# Altium footprint library 继电器.PcbLib: 47 footprints (part 1 of 3)
Each footprint in its own frame and in the unit in brackets; x right, y up, seen from the top. Pads: shape width x height; smd on the part's side, far side on the other; paste and mask are expansions set on the pad; w line width, h text height; cw(c..) or ccw(c..) is an arc to the next point about the centre after c.
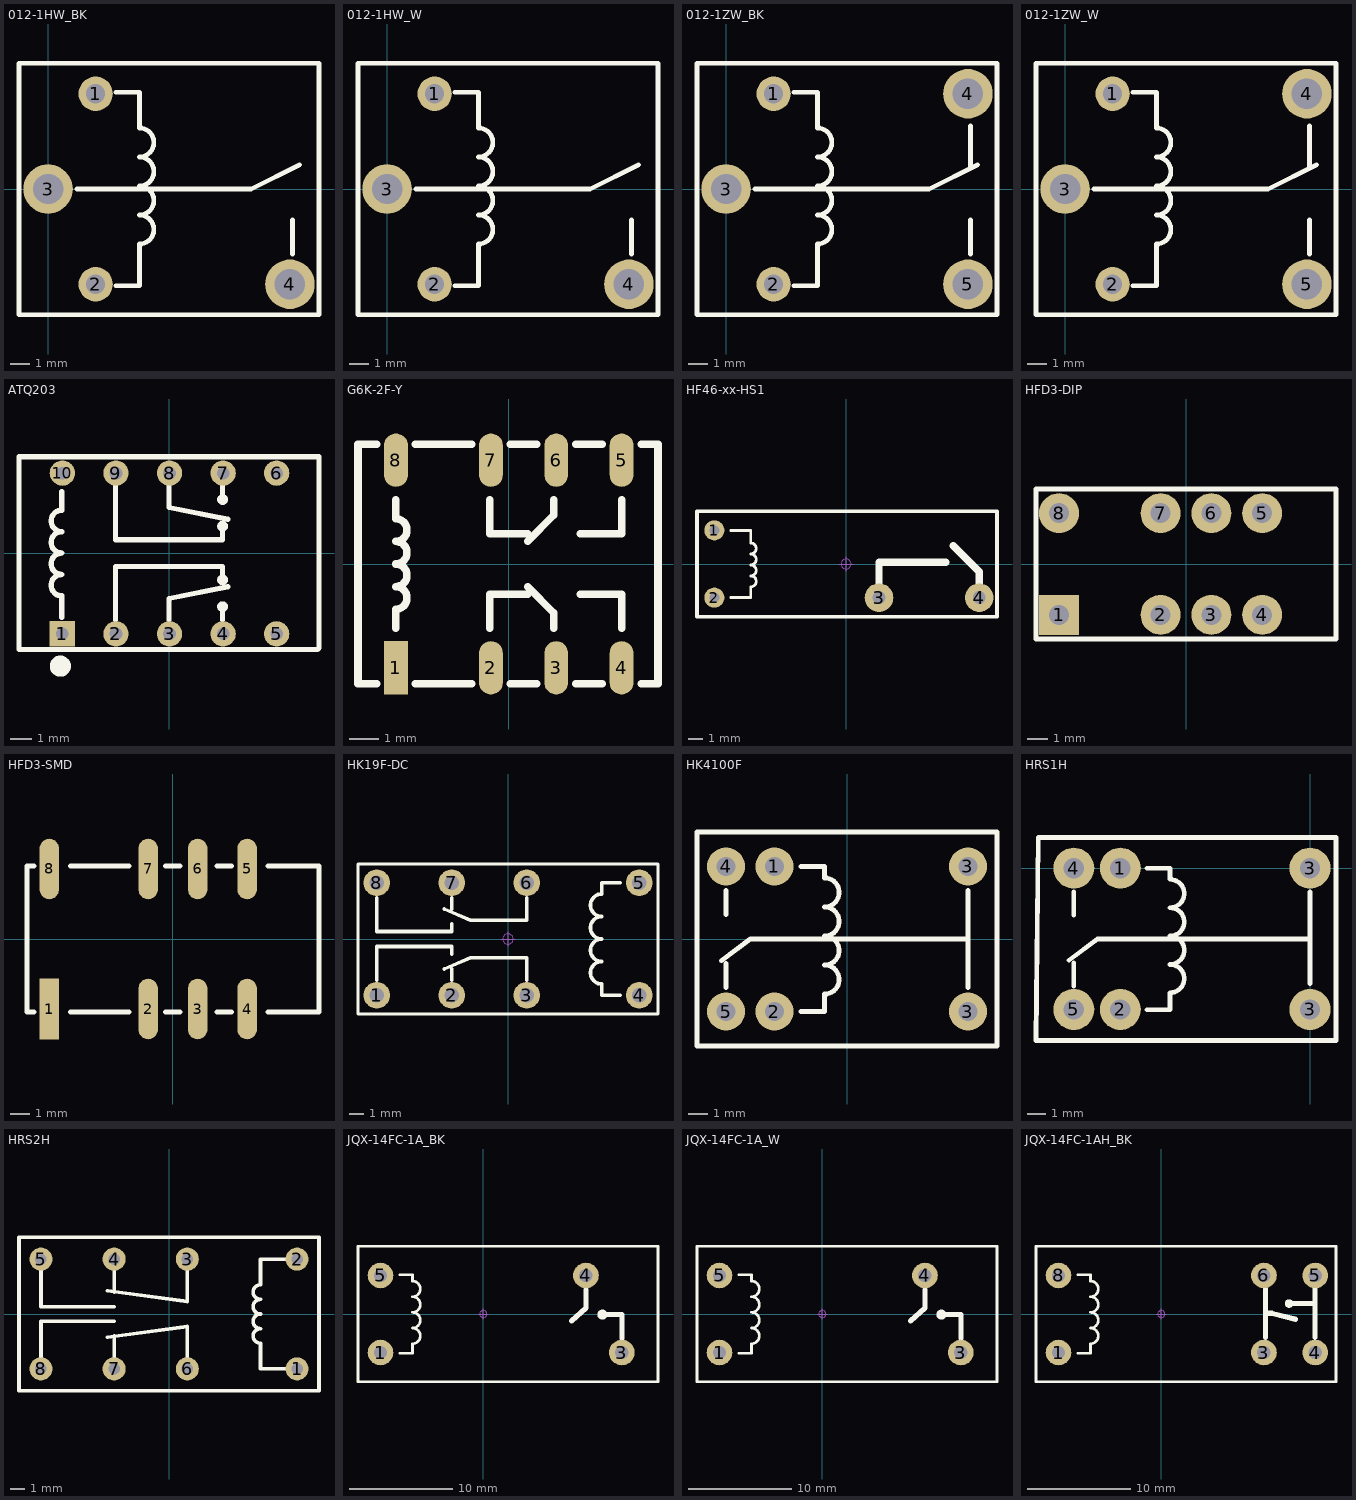
[diagram p0: the footprints below, top view; thin cyan lines are the x and y axes]

## 012-1HW_BK [mm] "单刀单投/常开"
pads (4):
  round 1.8 hole 1: 1(2.5,5) 2(2.5,-5)
  round 2.6 hole 1.6: 3(0,0) 4(12.7,-5)
Top Overlay:
  lines w0.254: 1.524,0 10.668,0 13.208,1.27 ; 3.556,-5.08 4.794,-5.08 4.794,-2.89 ccw(c4.794,-2.128) 4.794,-1.366 ccw(c4.794,-0.604) 4.794,0.158 ccw(c4.794,0.92) 4.794,1.682 ccw(c4.794,2.444) 4.794,3.206 4.794,5.08 3.556,5.08 ; 12.827,-3.429 12.838,-1.62 ; -1.524,-6.604 14.224,-6.604 14.224,6.604 -1.524,6.604 -1.524,-6.604
3D body: height 12.9, standoff -3.6, extent -1.5,-6.1 14,6.1

## 012-1HW_W [mm] "单刀单投/常开"
pads (4):
  round 1.8 hole 1: 1(2.5,5) 2(2.5,-5)
  round 2.6 hole 1.6: 3(0,0) 4(12.7,-5)
Top Overlay:
  lines w0.254: 1.524,0 10.668,0 13.208,1.27 ; 3.556,-5.08 4.794,-5.08 4.794,-2.89 ccw(c4.794,-2.128) 4.794,-1.366 ccw(c4.794,-0.604) 4.794,0.158 ccw(c4.794,0.92) 4.794,1.682 ccw(c4.794,2.444) 4.794,3.206 4.794,5.08 3.556,5.08 ; 12.827,-3.429 12.838,-1.62 ; -1.524,-6.604 -1.524,6.604 14.224,6.604 14.224,-6.604 -1.524,-6.604
3D body: height 12.9, standoff -3.6, extent -1.5,-6.1 14,6.1

## 012-1ZW_BK [mm] "单刀双投"
pads (5):
  round 1.8 hole 1: 1(2.5,5) 2(2.5,-5)
  round 2.6 hole 1.6: 3(0,0) 4(12.7,5) 5(12.7,-5)
Top Overlay:
  lines w0.254: 1.524,0 10.668,0 13.208,1.27 ; 3.556,-5.08 4.794,-5.08 4.794,-2.89 ccw(c4.794,-2.128) 4.794,-1.366 ccw(c4.794,-0.604) 4.794,0.158 ccw(c4.794,0.92) 4.794,1.682 ccw(c4.794,2.444) 4.794,3.206 4.794,5.08 3.556,5.08 ; 12.827,-3.429 12.838,-1.62 ; 12.838,1.174 12.838,3.302 ; -1.524,-6.604 14.224,-6.604 14.224,6.604 -1.524,6.604 -1.524,-6.604
3D body: height 12.9, standoff -3.6, extent -1.5,-6.1 14,6.1

## 012-1ZW_W [mm] "单刀双投"
pads (5):
  round 1.8 hole 1: 1(2.5,5) 2(2.5,-5)
  round 2.6 hole 1.6: 3(0,0) 4(12.7,5) 5(12.7,-5)
Top Overlay:
  lines w0.254: 1.524,0 10.668,0 13.208,1.27 ; 3.556,-5.08 4.794,-5.08 4.794,-2.89 ccw(c4.794,-2.128) 4.794,-1.366 ccw(c4.794,-0.604) 4.794,0.158 ccw(c4.794,0.92) 4.794,1.682 ccw(c4.794,2.444) 4.794,3.206 4.794,5.08 3.556,5.08 ; 12.827,-3.429 12.838,-1.62 ; 12.838,1.174 12.838,3.302 ; -1.524,-6.604 -1.524,6.604 14.224,6.604 14.224,-6.604 -1.524,-6.604
3D body: height 12.9, standoff -3.6, extent -1.5,-6.1 14,6.1

## ATQ203 [mm] "双刀双投"
pads (10):
  rect 1.2x1.2 hole 0.6: 1(-5.055,-3.829)
  round 1.2 hole 0.6: 2(-2.515,-3.829) 3(0.025,-3.829) 4(2.565,-3.829) 5(5.105,-3.829) 6(5.105,3.791) 7(2.565,3.791) 8(0.025,3.791) 9(-2.515,3.791) 10(-5.055,3.791)
Top Overlay:
  circle w0.254: c2.54,-2.54 r0.127
  circle w0.254: c2.54,-1.27 r0.127
  circle w0.254: c2.54,1.27 r0.127
  circle w0.254: c2.54,2.54 r0.127
  circle w0.5: c-5.152,-5.359 r0.25
  lines w0.254: -5.08,-3.048 -5.08,-2.032 cw(c-5.08,-1.524) -5.08,-1.016 cw(c-5.08,-0.508) -5.08,0 cw(c-5.08,0.508) -5.08,1.016 cw(c-5.08,1.524) -5.08,2.032 -5.08,2.921 ; -2.54,-3.175 -2.54,-2.159 -2.54,-0.635 2.54,-0.635 2.54,-1.27 ; -2.54,3.175 -2.54,2.159 -2.54,0.635 2.54,0.635 2.54,1.27 ; 0,-3.175 0,-2.159 2.784,-1.602 ; 0,3.175 0,2.159 2.784,1.602 ; 2.54,-3.175 2.54,-2.54 ; 2.54,2.54 2.54,3.175 ; -7.112,-4.572 7.04,-4.572 7.112,-4.5 7.112,4.572 -7.112,4.572 -7.112,-4.572
3D body: height 5.25, standoff -3.5, extent -7,-4.5 7,4.5

## G6K-2F-Y [mm] "10mm*6.5mm*5.2mm( 长*宽*高)"
pads (8):
  rect 0.8x1.8 smd: 1(-3.8,-3.5)
  oval 0.8x1.8 smd: 2(-0.6,-3.5) 3(1.6,-3.5) 4(3.8,-3.5) 5(3.8,3.5) 6(1.6,3.5) 7(-0.6,3.5) 8(-3.8,3.5)
Top Overlay:
  lines w0.254: -4.445,-4.039 -5.08,-4.039 -5.08,4.039 -4.445,4.039 ; -3.81,-2.159 -3.81,-1.524 ccw(c-3.81,-1.143) -3.81,-0.762 ccw(c-3.81,-0.381) -3.81,0 ccw(c-3.81,0.381) -3.81,0.762 ccw(c-3.81,1.143) -3.81,1.524 -3.81,2.159 ; -3.15,-4.039 -1.245,-4.039 ; -3.15,4.039 -1.245,4.039 ; -0.635,-2.159 -0.635,-1.016 0.635,-1.016 ; -0.635,2.159 -0.635,1.016 0.635,1.016 ; 0.051,-4.039 0.94,-4.039 ; 0.051,4.039 0.94,4.039 ; 0.635,-0.762 1.524,-1.651 1.524,-2.159 ; 0.635,0.762 1.524,1.651 1.524,2.159 ; 2.261,-4.039 3.15,-4.039 ; 2.261,4.039 3.15,4.039 ; 2.413,-1.016 3.81,-1.016 3.81,-2.159 ; 2.413,1.016 3.81,1.016 3.81,2.159 ; 4.47,-4.039 5.029,-4.039 5.029,4.039 4.47,4.039
3D body: height 5.45, standoff -0.05, extent -5,-3.9 5,3.9

## HF46-xx-HS1 [mm] "一组常开，长：20.5mm，宽：7mm，高：15.3mm"
pads (4):
  round 1.4 hole 0.7: 1(-9.2,2.35) 2(-9.2,-2.35)
  round 2 hole 0.9: 3(2.3,-2.35) 4(9.3,-2.35)
Top Overlay:
  lines w0.2: -8.057,-2.35 -6.66,-2.35 -6.66,-1.59 ccw(c-6.66,-1.208) -6.66,-0.826 ccw(c-6.66,-0.444) -6.66,-0.062 ccw(c-6.66,0.32) -6.66,0.702 ccw(c-6.66,1.084) -6.66,1.466 -6.66,2.35 -8.057,2.35
  lines w0.254: -10.414,-3.683 10.541,-3.683 10.541,3.683 -10.414,3.683 -10.414,-3.683
  lines w0.508: 2.3,-2.35 2.3,0.113 2.314,0.127 6.985,0.127 ; 7.493,1.27 9.3,-0.537 9.3,-2.35
Mechanical 15:
  circle w0.05: c0,0 r0.35
  lines w0.05: -0.5,0 0.5,0 ; 0,-0.5 0,0.5
3D body: height 15.3, standoff -2.6, extent -10.25,-3.5 10.25,3.5

## HFD3-DIP [mm] "超小型型号继电器（15mm*7.5mm*9mm)"
pads (8):
  rect 2x2 hole 1: 1(-6.35,-2.54)
  round 2 hole 1: 2(-1.27,-2.54) 3(1.27,-2.54) 4(3.81,-2.54) 5(3.81,2.54) 6(1.27,2.54) 7(-1.27,2.54) 8(-6.35,2.54)
Top Overlay:
  lines w0.254: -7.5,-3.75 7.5,-3.75 7.5,3.75 -7.5,3.75 -7.5,-3.75
3D body: height 9, standoff -3.3, extent -7.5,-3.75 7.5,3.75

## HFD3-SMD [mm] "超小型型号继电器（15mm*7.5mm*9mm)"
pads (8):
  rect 1x3.11 smd: 1(-6.35,-3.595)
  oval 1x3.11 smd: 2(-1.27,-3.595) 3(1.27,-3.595) 4(3.81,-3.595) 5(3.81,3.595) 6(1.27,3.595) 7(-1.27,3.595) 8(-6.35,3.595)
Top Overlay:
  lines w0.254: -7.125,-3.75 -7.5,-3.75 -7.5,3.75 -7.125,3.75 ; -5.25,-3.75 -2.25,-3.75 ; -5.25,3.75 -2.25,3.75 ; -0.375,-3.75 0.375,-3.75 ; -0.375,3.75 0.375,3.75 ; 2.25,-3.75 3,-3.75 ; 2.25,3.75 3,3.75 ; 4.875,-3.75 7.5,-3.75 7.5,3.75 4.875,3.75
3D body: height 9.5, standoff 0, extent -7.5,-4.65 7.5,4.65

## HK19F-DC [mm] "单刀双投，长：20.2mm，宽：10mm，高：12mm"
pads (8):
  round 1.8 hole 1: 1(-8.89,-3.81) 2(-3.81,-3.81) 3(1.27,-3.81) 4(8.89,-3.81) 5(8.89,3.81) 6(1.27,3.81) 7(-3.81,3.81) 8(-8.89,3.81)
Top Overlay:
  lines w0.2: -10.16,-5.08 -10.16,5.08 10.16,5.08 10.16,-5.08 -10.16,-5.08
  lines w0.254: -8.89,-2.794 -8.89,-0.508 -3.81,-0.508 -3.81,-1.016 ; -8.89,2.794 -8.89,0.508 -3.81,0.508 -3.81,1.016 ; -4.318,-2.032 -2.54,-1.27 1.27,-1.27 1.27,-2.794 ; -4.318,2.032 -2.54,1.27 1.27,1.27 1.27,2.794 ; -3.81,-2.794 -3.81,-2.032 ; -3.81,2.032 -3.81,2.794 ; 7.588,-3.81 6.35,-3.81 6.35,-3.048 cw(c6.35,-2.286) 6.35,-1.524 cw(c6.35,-0.762) 6.35,0 cw(c6.35,0.762) 6.35,1.524 cw(c6.35,2.286) 6.35,3.048 6.35,3.81 7.588,3.81
Mechanical 15:
  circle w0.05: c0,0 r0.35
  lines w0.05: -0.5,0 0.5,0 ; 0,-0.5 0,0.5
3D body: height 11.85, standoff -3.25, extent -10.1,-5 10.1,5

## HK4100F [mm] "单刀双投"
pads (6):
  round 2 hole 1: 1(-3.81,3.81) 2(-3.81,-3.81) 3(6.35,-3.81) 3(6.35,3.81) 4(-6.35,3.81) 5(-6.35,-3.81)
Top Overlay:
  lines w0.254: -6.604,-1.143 -5.08,0 6.35,0 ; -6.35,-2.54 -6.35,-1.27 ; -6.35,1.27 -6.35,2.54 ; -2.413,-3.81 -1.175,-3.81 -1.175,-2.89 ccw(c-1.175,-2.128) -1.175,-1.366 ccw(c-1.175,-0.604) -1.175,0.158 ccw(c-1.175,0.92) -1.175,1.682 ccw(c-1.175,2.444) -1.175,3.206 -1.175,3.81 -2.413,3.81 ; 6.35,-2.54 6.35,2.54 ; -7.874,-5.613 7.874,-5.613 7.874,5.613 -7.874,5.613 -7.874,-5.613
3D body: height 12.2, standoff -3.3, extent -7.75,-5.5 7.75,5.5

## HRS1H [mm] "单刀双投"
pads (6):
  round 2.2 hole 1.1: 1(-10.2,0) 2(-10.2,-7.6) 3(0,-7.6) 3(0,0) 4(-12.7,0) 5(-12.7,-7.6)
Top Overlay:
  lines w0.254: -12.954,-4.953 -11.43,-3.81 0,-3.81 ; -12.7,-6.35 -12.7,-5.08 ; -12.7,-2.54 -12.7,-1.27 ; -8.763,-7.62 -7.525,-7.62 -7.525,-6.7 ccw(c-7.525,-5.938) -7.525,-5.176 ccw(c-7.525,-4.414) -7.525,-3.652 ccw(c-7.525,-2.89) -7.525,-2.128 ccw(c-7.525,-1.366) -7.525,-0.604 -7.525,0 -8.763,0 ; 0,-6.223 0,-1.27 ; -14.732,-9.271 -14.605,1.651 1.397,1.651 1.397,-9.271 -14.732,-9.271
3D body: height 11.8, standoff -3.3, extent -14.4,-9.05 1.1,1.45

## HRS2H [mm] "双刀双投"
pads (8):
  round 1.6 hole 0.8: 1(8.89,-3.81) 2(8.89,3.81) 3(1.27,3.81) 4(-3.81,3.81) 5(-8.89,3.81) 6(1.27,-3.81) 7(-3.81,-3.81) 8(-8.89,-3.81)
Top Overlay:
  lines w0.254: -8.89,-3.81 -8.89,-0.508 -3.81,-0.508 ; -8.89,3.81 -8.89,0.508 -3.81,0.508 ; -4.27,-1.621 1.27,-0.866 1.27,-1.27 1.27,-3.81 ; -4.27,1.621 1.27,0.866 1.27,1.27 1.27,3.81 ; -3.81,-3.81 -3.81,-1.524 ; -3.81,1.524 -3.81,3.81 ; 8.89,-3.81 6.35,-3.81 6.35,-2.032 cw(c6.35,-1.524) 6.35,-1.016 cw(c6.35,-0.508) 6.35,0 cw(c6.35,0.508) 6.35,1.016 cw(c6.35,1.524) 6.35,2.032 6.35,3.81 8.89,3.81 ; -10.414,-5.334 10.414,-5.334 10.414,5.334 -10.414,5.334 -10.414,-5.334
3D body: height 10.91, standoff -4, extent -10.1,-4.95 10.1,4.95

## JQX-14FC-1A_BK [mm] "单刀常开，长：29mm，宽：13mm，高：26mm"
pads (4):
  round 2.5 hole 1.3: 1(-10,-3.75) 3(13.5,-3.75) 4(10,3.75) 5(-10,3.75)
Top Overlay:
  circle w0.254: c11.595,-0.06 r0.359
  lines w0.25: -12.192,-6.604 -12.192,6.604 -12.065,6.604 17.018,6.604 17.018,-6.604 -12.192,-6.604
  lines w0.254: -8.128,-3.81 -6.89,-3.81 -6.89,-2.89 ccw(c-6.89,-2.128) -6.89,-1.366 ccw(c-6.89,-0.604) -6.89,0.158 ccw(c-6.89,0.92) -6.89,1.682 ccw(c-6.89,2.444) -6.89,3.206 -6.89,3.81 -8.128,3.81
  lines w0.508: 8.603,-0.695 10,0.575 10,2.353 ; 11.595,-0.06 13.5,-0.06 13.5,-2.353
Mechanical 15:
  circle w0.05: c0,0 r0.35
  lines w0.05: -0.5,0 0.5,0 ; 0,-0.5 0,0.5
3D body: height 26.35, standoff -3.65, extent -12.1,-6.5 16.9,6.5

## JQX-14FC-1A_W [mm] "单刀常开，长：29mm，宽：13mm，高：26mm"
pads (4):
  round 2.5 hole 1.3: 1(-10,-3.75) 3(13.5,-3.75) 4(10,3.75) 5(-10,3.75)
Top Overlay:
  circle w0.254: c11.595,-0.06 r0.359
  lines w0.25: -12.192,-6.604 17.018,-6.604 17.018,6.604 -12.065,6.604 -12.192,6.604 -12.192,-6.604
  lines w0.254: -8.128,-3.81 -6.89,-3.81 -6.89,-2.89 ccw(c-6.89,-2.128) -6.89,-1.366 ccw(c-6.89,-0.604) -6.89,0.158 ccw(c-6.89,0.92) -6.89,1.682 ccw(c-6.89,2.444) -6.89,3.206 -6.89,3.81 -8.128,3.81
  lines w0.508: 8.603,-0.695 10,0.575 10,2.353 ; 11.595,-0.06 13.5,-0.06 13.5,-2.353
Mechanical 15:
  circle w0.05: c0,0 r0.35
  lines w0.05: -0.5,0 0.5,0 ; 0,-0.5 0,0.5
3D body: height 26.35, standoff -3.65, extent -12.1,-6.5 16.9,6.5

## JQX-14FC-1AH_BK [mm] "单刀常开，长：29mm，宽：13mm，高：26mm"
pads (6):
  round 2.5 hole 1.3: 1(-10,-3.75) 3(10,-3.75) 4(15,-3.75) 5(15,3.75) 6(10,3.75) 8(-10,3.75)
Top Overlay:
  circle w0.254: c12.446,1.016 r0.284
  lines w0.25: -12.192,-6.604 -12.192,6.604 -12.065,6.604 17.018,6.604 17.018,-6.604 -12.192,-6.604
  lines w0.254: -8.128,-3.81 -6.89,-3.81 -6.89,-2.89 ccw(c-6.89,-2.128) -6.89,-1.366 ccw(c-6.89,-0.604) -6.89,0.158 ccw(c-6.89,0.92) -6.89,1.682 ccw(c-6.89,2.444) -6.89,3.206 -6.89,3.81 -8.128,3.81
  lines w0.508: 10.16,-2.286 10.16,2.413 ; 10.16,0.064 10.795,0.064 13.081,-0.508 ; 12.446,1.016 14.986,1.016 ; 14.986,-2.286 14.986,2.413
Mechanical 15:
  circle w0.05: c0,0 r0.35
  lines w0.05: -0.5,0 0.5,0 ; 0,-0.5 0,0.5
3D body: height 26.35, standoff -3.65, extent -12.1,-6.5 16.9,6.5